# Altium schematic symbol library joystick.SchLib: 1 symbol
Pins are listed as number, name and electrical type; pins without a type are passive.

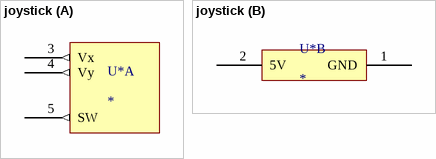
[diagram p0: symbol joystick]

## joystick
designator U*
footprint joystick
part A pins: 3 Vx (out), 4 Vy (out), 5 SW (out)
part B pins: 1 GND (power), 2 5V (power)